# Altium schematic symbol library Schlib1.SchLib: 3 symbols
Pins are listed as number, name and electrical type; pins without a type are passive.

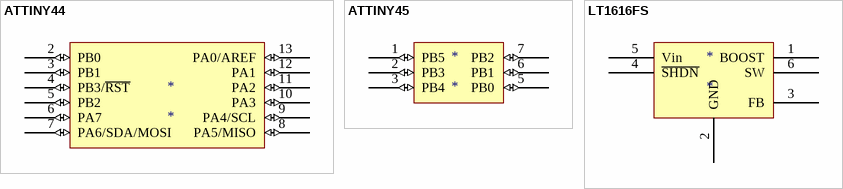
[diagram p0: symbols ATTINY44 to LT1616FS]

## ATTINY44
designator *
pins: 1 VCC (power) hidden to VCC, 2 PB0 (io), 3 PB1 (io), 4 PB3/~{RST} (io), 5 PB2 (io), 6 PA7 (io), 7 PA6/SDA/MOSI (io), 8 PA5/MISO (io), 9 PA4/SCL (io), 10 PA3 (io), 11 PA2 (io), 12 PA1 (io), 13 PA0/AREF (io), 14 GND (power) hidden to GND

## ATTINY45
designator *
footprint SO-G8/D5.1
pins: 1 PB5 (io), 2 PB3 (io), 3 PB4 (io), 4 GND (power) hidden to GND, 5 PB0 (io), 6 PB1 (io), 7 PB2 (io), 8 VCC (power) hidden to VCC

## LT1616FS
designator *
footprint SO-G6/P.95
pins: 1 BOOST, 2 GND, 3 FB, 4 ~{SHDN}, 5 Vin, 6 SW